# Altium schematic symbol library CDBHD240-G.SchLib: 1 symbol
Pins are listed as number, name and electrical type; pins without a type are passive.

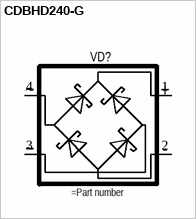
[diagram p0: symbol CDBHD240-G]

## CDBHD240-G
designator VD?
Low VF SMD Schottky Bridge Rectifiers
pins: 1 +, 2 -, 3 ~, 4 ~